# Altium footprint library B66243S1012T001.PcbLib: 1 footprints
Each footprint in its own frame and in the unit in brackets; x right, y up, seen from the top. Pads: shape width x height; smd on the part's side, far side on the other; paste and mask are expansions set on the pad; w line width, h text height; cw(c..) or ccw(c..) is an arc to the next point about the centre after c.
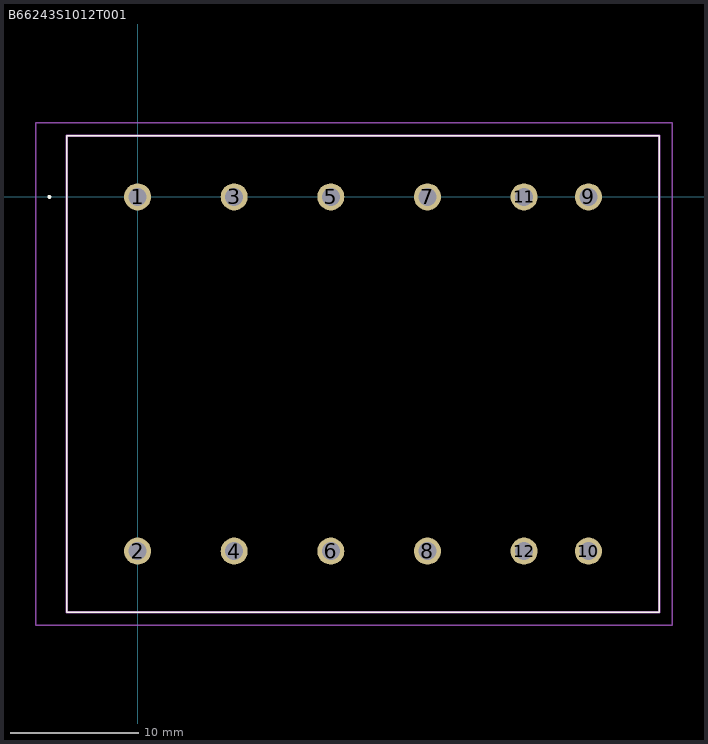
[diagram p0: the footprint, top view; thin cyan lines are the x and y axes]

## B66243S1012T001 [mm]
pads (12):
  round 2.1 hole 1.4: 1(0,0) 2(0,-27.5) 3(7.5,0) 4(7.5,-27.5) 5(15,0) 6(15,-27.5) 7(22.5,0) 8(22.5,-27.5) 9(35,0) 10(35,-27.5) 11(30,0) 12(30,-27.5)
Top Overlay:
  lines w0.1: -5.5,-32.25 40.5,-32.25 40.5,4.75 -5.5,4.75 -5.5,-32.25
  lines w0.2: -6.9,0 -6.9,0 ; -6.9,0 ccw(c-6.85,0) -6.8,0 ; -6.9,0 cw(c-6.85,0) -6.8,0 ; -6.9,0 -6.9,0 ; -6.9,0 ccw(c-6.85,0) -6.8,0 ; -6.8,0 -6.8,0
Mechanical 15:
  lines w0.2: -5.5,-32.25 40.5,-32.25 40.5,4.75 -5.5,4.75 -5.5,-32.25
Mechanical 20:
  lines w0.1: -7.9,-33.25 41.5,-33.25 41.5,5.75 -7.9,5.75 -7.9,-33.25